# Altium footprint library ECEN_1400.PcbLib: 52 footprints (part 2 of 4)
Each footprint in its own frame and in the unit in brackets; x right, y up, seen from the top. Pads: shape width x height; smd on the part's side, far side on the other; paste and mask are expansions set on the pad; w line width, h text height; cw(c..) or ccw(c..) is an arc to the next point about the centre after c.
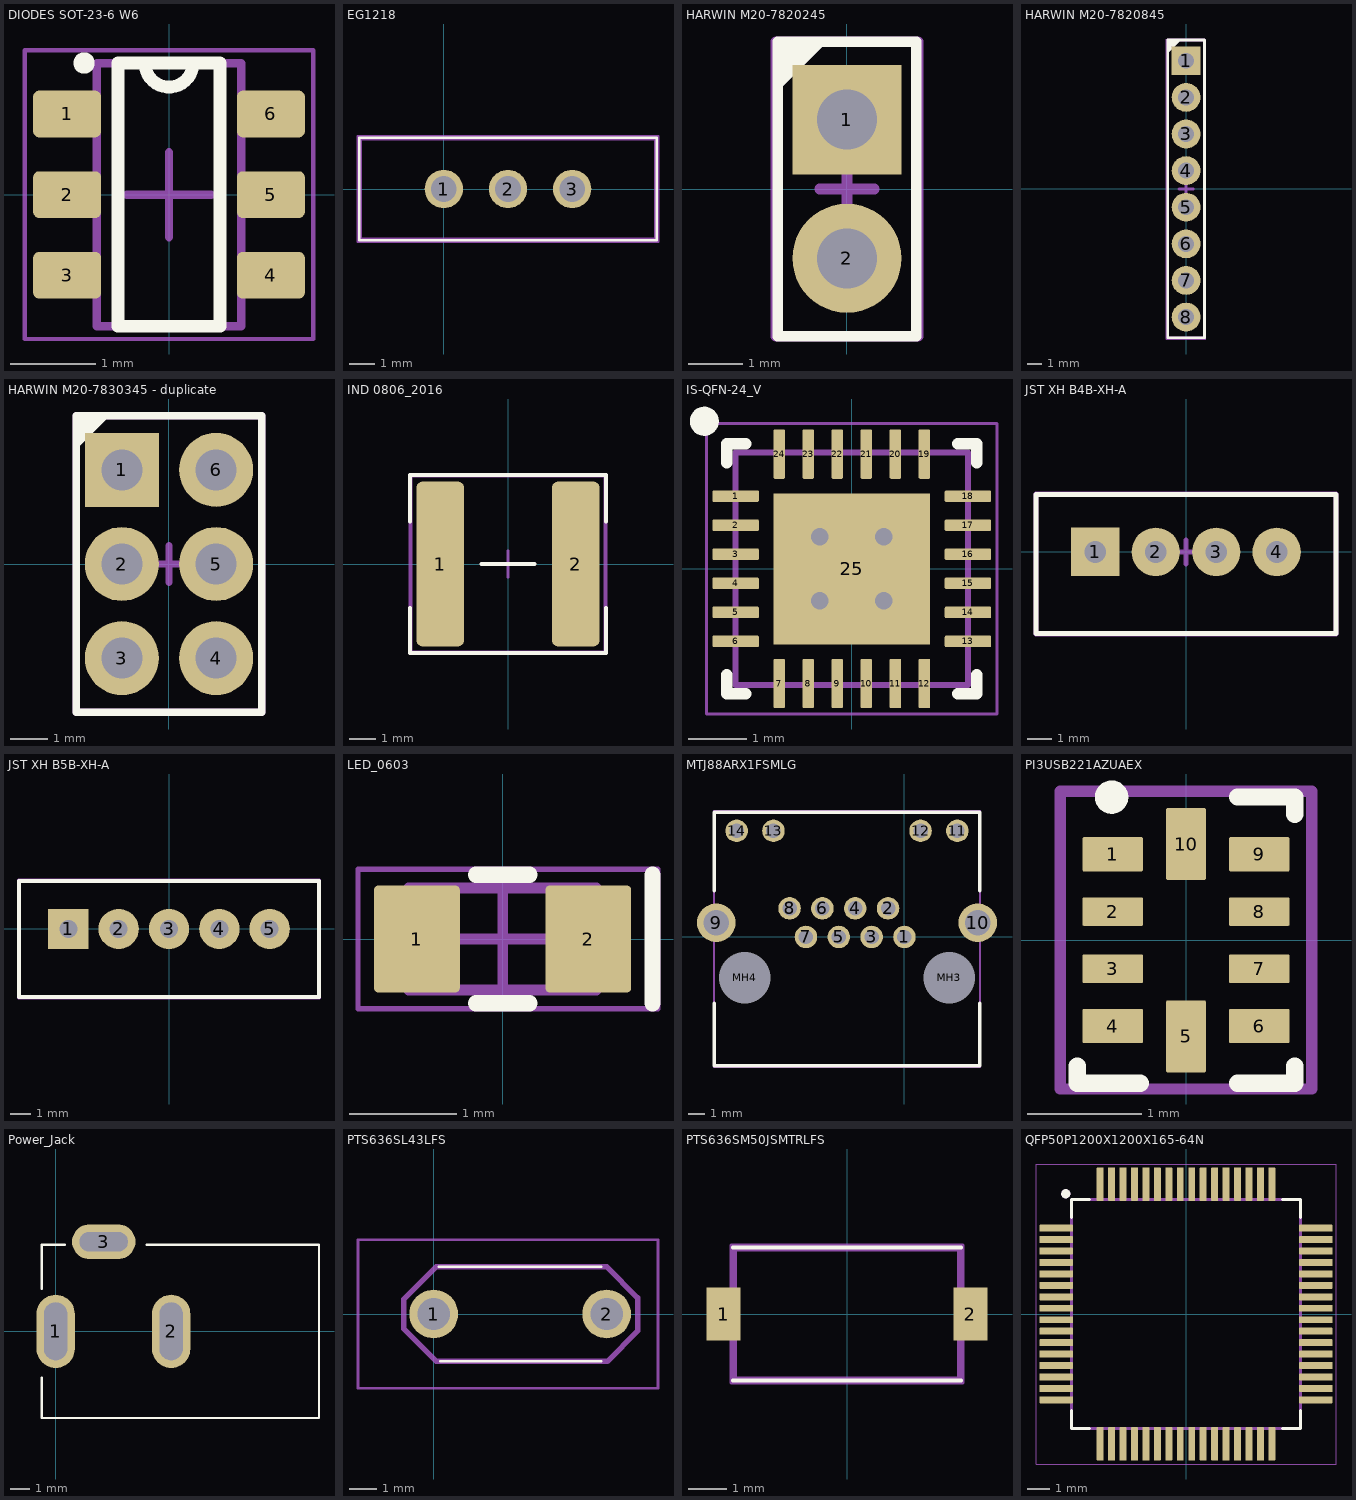
[diagram p1: the footprints below, top view; thin cyan lines are the x and y axes]

## DIODES SOT-23-6 W6 [mm] "SOT23, 6-Leads, Body 3.00x2.85mm, Pitch 0.95mm, IPC Medium Density"
height 1.3
pads (6):
  rrect25% 0.8x0.55 smd: 1(-1.2,0.95) 2(-1.2,0) 3(-1.2,-0.95) 4(1.2,-0.95) 5(1.2,0) 6(1.2,0.95)
Top Overlay:
  circle w0.15: c-1,1.55 r0.05
  lines w0.15: -0.283,1.55 ccw(c0,1.55) 0.283,1.55 ; -0.6,-1.55 0.6,-1.55 0.6,1.55 -0.6,1.55 -0.6,-1.55
Mechanical 13:
  lines w0.1: -0.85,-1.55 -0.85,1.55 0.85,1.55 0.85,-1.55 -0.85,-1.55
Mechanical 15:
  lines w0.05: -1.7,-1.7 -1.7,-0.606 -1.7,0.5 -1.7,1.7 1.7,1.7 1.7,-1.7 -1.7,-1.7
  lines w0.1: -0.5,0 0.5,0 ; 0,-0.5 0,0.5
3D body "SOT-23-6.STEP": height 1, standoff 0, extent -1.187,-1.45 1.2,1.45

## EG1218 [mm]
pads (3):
  round 1.5 hole 1: 1(0,0) 2(2.5,0) 3(5,0)
Top Overlay:
  lines w0.1: -3.3,-2 -3.3,2 8.3,2 8.3,-2 -3.3,-2
Mechanical 15:
  lines w0.2: -3.3,-2 -3.3,2 8.3,2 8.3,-2 -3.3,-2
Mechanical 20:
  lines w0.1: -3.35,-2.05 -3.35,2.05 8.35,2.05 8.35,-2.05 -3.35,-2.05

## HARWIN M20-7820245 [mm] "2.54mm DIL PC TAIL PIN HEADER ASSEMBLY"
height 5
pads (2):
  rect 2x2 hole 1.1: 1(0,1.27)
  round 2 hole 1.1: 2(0,-1.27)
Top Overlay:
  region: -1.23,2.73 -1.23,1.83 -0.33,2.73
  lines w0.2: -1.27,-2.7 1.27,-2.7 1.27,2.7 -1.27,2.7 -1.27,-2.7
Top Assembly:
  lines w0.2: -0.5,0 0.5,0 ; 0,-0.5 0,0.5 ; -1.27,-2.7 1.27,-2.7 1.27,2.7 -1.27,2.7 -1.27,-2.7
Top Courtyard:
  lines w0.2: -1.3,-2.7 1.3,-2.7 1.3,2.7 -1.3,2.7 -1.3,-2.7
Mechanical 20:
  lines w0.05: -1.35,-2.75 1.35,-2.75 1.35,2.75 -1.35,2.75 -1.35,-2.75
3D body "M20-7820242.step": height 8.5, standoff -3, extent -1.25,-2.74 1.25,2.74

## HARWIN M20-7820845 [mm] "2.54mm DIL PC TAIL PIN HEADER ASSEMBLY"
height 5
pads (8):
  rect 2x2 hole 1.1: 1(0,8.89)
  round 2 hole 1.1: 2(0,6.35) 3(0,3.81) 4(0,1.27) 5(0,-1.27) 6(0,-3.81) 7(0,-6.35) 8(0,-8.89)
Top Overlay:
  region: -1.23,10.35 -1.23,9.45 -0.33,10.35
  lines w0.2: -1.27,-10.33 1.27,-10.33 1.27,10.32 -1.27,10.32 -1.27,-10.33
Top Assembly:
  lines w0.2: -0.5,0 0.5,0 ; 0,-0.5 0,0.5 ; -1.27,-10.33 1.27,-10.33 1.27,10.32 -1.27,10.32 -1.27,-10.33
Top Courtyard:
  lines w0.1: -1.3,-10.4 1.3,-10.4 1.3,10.4 -1.3,10.4 -1.3,-10.4
Mechanical 20:
  lines w0.05: -1.363,-10.413 1.35,-10.413 1.35,10.4 -1.363,10.4 -1.363,-10.413
3D body "M20-7820842.step": height 8.5, standoff -3, extent -1.25,-10.36 1.25,10.36

## HARWIN M20-7830345 - duplicate [mm] "2.54mm DIL PC TAIL PIN HEADER ASSEMBLY"
height 5
pads (6):
  rect 2x2 hole 1.1: 1(-1.27,2.54)
  round 2 hole 1.1: 2(-1.27,0) 3(-1.27,-2.54) 4(1.27,-2.54) 5(1.27,0) 6(1.27,2.54)
Top Overlay:
  region: -2.5,4 -2.5,3.1 -1.6,4
  lines w0.2: -2.5,-4 2.5,-4 2.5,4 -2.5,4 -2.5,-4
Top Assembly:
  lines w0.2: -0.5,0 0.5,0 ; 0,-0.5 0,0.5 ; -2.5,-4 2.5,-4 2.5,4 -2.5,4 -2.5,-4
Top Courtyard:
  lines w0.05: -2.55,-4.05 2.55,-4.05 2.55,4.05 -2.55,4.05 -2.55,-4.05
Mechanical 20:
  lines w0.05: -2.55,-4.05 2.55,-4.05 2.55,4.05 -2.55,4.05 -2.55,-4.05
3D body "M20-7830342.step": height 8.5, standoff -3, extent -2.52,-4.01 2.52,4.01

## IND 0806_2016 [mm] "Chip Capacitor, 2-Leads, Body 2.00x1.20mm, IPC Medium Density"
height 1.8
pads (2):
  rrect25% 1.8x6.2 smd: 1(-2.55,0) 2(2.55,0)
Top Overlay:
  lines w0.15: -3.7,-1.65 -3.7,-3.35 3.7,-3.35 3.7,-1.65 ; -3.7,1.6 -3.7,3.35 3.7,3.35 ; -1,0 1,0 ; 3.7,1.6 3.7,3.3
Mechanical 13:
  lines w0.1: -3.7,-3.35 3.7,-3.35 3.7,3.35 -3.7,3.35 -3.7,-3.35
Mechanical 15:
  lines w0.1: -0.5,0 0.5,0 ; 0,-0.5 0,0.5 ; -3.65,-3.3 3.65,-3.3 3.65,3.3 -3.65,3.3 -3.65,-3.3

## IS-QFN-24_V [mm] "QFN, 24-Leads, Body 4x4mm, Pitch 0.5mm, Thermal Pad 2.7x2.6mm"
height 0.95
pads (25):
  rrect25% 0.8x0.2 smd: 1(-2,1.25) 2(-2,0.75) 3(-2,0.25) 4(-2,-0.25) 5(-2,-0.75) 6(-2,-1.25) 13(2,-1.25) 14(2,-0.75) 15(2,-0.25) 16(2,0.25) 17(2,0.75) 18(2,1.25)
  rrect25% 0.2x0.85 smd: 7(-1.25,-1.975) 8(-0.75,-1.975) 9(-0.25,-1.975) 10(0.25,-1.975) 11(0.75,-1.975) 12(1.25,-1.975) 19(1.25,1.975) 20(0.75,1.975) 21(0.25,1.975) 22(-0.25,1.975) 23(-0.75,1.975) 24(-1.25,1.975)
  rect 2.7x2.6 smd: 25(0,0)
via -0.55,0.55 diameter 0.5 hole 0.3
via 0.55,0.55 diameter 0.5 hole 0.3
via 0.55,-0.55 diameter 0.5 hole 0.3
via -0.55,-0.55 diameter 0.5 hole 0.3
Top Overlay:
  circle w0.25: c-2.54,2.54 r0.125
  lines w0.2: -2.15,-1.825 -2.15,-2.15 -1.825,-2.15 ; -2.15,1.825 -2.15,2.15 -1.825,2.15 ; 1.825,-2.15 2.15,-2.15 2.15,-1.825 ; 1.825,2.15 2.15,2.15 2.15,1.825
Mechanical 13:
  lines w0.1: -2,-2 2,-2 2,2 -2,2 -2,-2
Mechanical 15:
  lines w0.05: -2.5,-2.5 -2.5,2.5 2.5,2.5 2.5,-2.5 -2.5,-2.5
  lines w0.1: -0.5,0 0.5,0 ; 0,-0.5 0,0.5
3D body: height 0.95, standoff 0, extent -1.999,-1.999 1.999,1.999

## JST XH B4B-XH-A [mm]
height 7
pads (4):
  rect 2x2 hole 0.9: 1(-3.75,0)
  round 2 hole 0.9: 2(-1.25,0) 3(1.25,0) 4(3.75,0)
Top Overlay:
  lines w0.2: -6.2,-3.375 6.2,-3.375 6.2,2.375 -6.2,2.375 -6.2,-3.375
Mechanical 1:
  lines w0.2: -6.2,-3.375 -6.2,2.375 6.2,2.375 6.2,-3.375 -6.2,-3.375
Mechanical 15:
  lines w0.2: -0.5,0 0.5,0 ; 0,-0.5 0,0.5 ; -6.2,-3.4 6.2,-3.4 6.2,2.4 -6.2,2.4 -6.2,-3.4
3D body "JST B4B-XH-A.STEP": height 7, standoff -3.4, extent -6.2,-3.375 6.2,2.375

## JST XH B5B-XH-A [mm]
height 7
pads (5):
  rect 2x2 hole 0.9: 1(-5,0)
  round 2 hole 0.9: 2(-2.5,0) 3(0,0) 4(2.5,0) 5(5,0)
Top Overlay:
  lines w0.2: -7.45,-3.375 -7.45,2.375 7.45,2.375 7.45,-3.375 -7.45,-3.375
Mechanical 1:
  lines w0.2: -7.45,-3.375 7.45,-3.375 7.45,2.375 -7.45,2.375 -7.45,-3.375
Mechanical 15:
  lines w0.2: -0.5,0 0.5,0 ; 0,-0.5 0,0.5 ; -7.45,-3.4 -7.45,2.4 7.45,2.4 7.45,-3.4 -7.45,-3.4
3D body "JST B5B-XH-A.STEP": height 7, standoff -3.4, extent -7.45,-3.375 7.45,2.375

## LED_0603 [mm] "Chip Resistor, 2-Leads, Body 1.60x0.80mm"
height 0.45
pads (2):
  rrect10% 0.8x1 smd: 1(-0.8,0) 2(0.8,0)
Top Overlay:
  lines w0.15: -0.25,-0.6 0.25,-0.6 ; -0.25,0.6 0.25,0.6 ; 1.4,-0.6 1.4,0.6
Mechanical 13:
  lines w0.1: -0.875,-0.475 -0.875,0.475 0.875,0.475 0.875,-0.475 -0.875,-0.475
Mechanical 15:
  lines w0.05: -1.35,-0.65 -1.35,0.65 1.45,0.65 1.45,-0.65 -1.35,-0.65
  lines w0.1: -0.475,0 0.475,0 ; 0,-0.475 0,0.475
3D body "0603 resistor.STEP": height 0.45, standoff 0, extent -0.8,-0.4 0.8,0.4

## MTJ88ARX1FSMLG [mm]
pads (16):
  round 1.4 hole 0.9: 1(0,0) 2(-1.02,1.78) 3(-2.04,0) 4(-3.06,1.78) 5(-4.08,0) 6(-5.1,1.78) 7(-6.12,0) 8(-7.14,1.78) 11(3.29,6.6) 12(1,6.6) 13(-8.14,6.6) 14(-10.43,6.6)
  round 2.4 hole 1.6: 9(-11.695,0.89) 10(4.555,0.89)
  round 1.6 hole 3.2 unplated: MH3(2.78,-2.54) MH4(-9.92,-2.54)
Top Overlay:
  lines w0.2: -11.82,-4.125 -11.82,-8 4.68,-8 4.68,-4.125 ; -11.82,2.875 -11.82,7.75 4.68,7.75 4.68,2.875
Top Courtyard:
  lines w0.1: -11.85,-8.1 4.7,-8.1 4.7,7.85 -11.85,7.85 -11.85,-8.1
Mechanical 15:
  lines w0.1: -11.82,-8 -11.82,7.75 4.68,7.75 4.68,-8 -11.82,-8
Mechanical 20:
  lines w0.1: -11.85,-8.05 -11.85,7.85 4.7,7.85 4.7,-8.05 -11.85,-8.05

## PI3USB221AZUAEX [mm]
pads (10):
  rrect10% 0.53x0.3 smd: 1(-0.64,0.75) 4(-0.64,-0.75) 6(0.64,-0.75) 9(0.64,0.75)
  rrect10% 0.53x0.25 smd: 2(-0.64,0.25) 3(-0.64,-0.25) 7(0.64,-0.25) 8(0.64,0.25)
  rrect10% 0.35x0.63 smd: 5(0,-0.84) 10(0,0.84)
Top Overlay:
  circle w0.15: c-0.65,1.25 r0.071
  lines w0.15: -0.95,-1.1 -0.95,-1.25 -0.4,-1.25 ; 0.45,-1.25 0.95,-1.25 0.95,-1.1 ; 0.45,1.25 0.95,1.25 0.95,1.1
Mechanical 15:
  lines w0.1: -1.1,-1.3 1.1,-1.3 1.1,1.3 -1.1,1.3 -1.1,-1.3
Mechanical 20:
  lines w0.1: -1.1,-1.3 1.1,-1.3 1.1,1.3 -1.1,1.3 -1.1,-1.3

## Power_Jack [mm]
pads (3):
  oval 2x3.8 hole 1.2 slot 3 at 90 deg: 1(0,0) 2(6,0)
  oval 3.3x1.8 hole 1 slot 2.5 at 0 deg: 3(2.5,4.65)
Top Overlay:
  lines w0.127: -0.723,-2.413 -0.723,-4.5 13.677,-4.5 13.677,4.5 4.727,4.5 ; -0.723,2.21 -0.723,4.5 0.483,4.5
  lines w0.254: 5.969,0 5.977,0
3D body "Power_JackPJ-102A.step": height 11.49, standoff -3.02, extent -0.762,-4.446 13.638,4.954

## PTS636SL43LFS [mm]
pads (2):
  round 1.8 hole 1.2: 1(0,0) 2(6.4,0)
Top Overlay:
  lines w0.1: 0.2,1.75 6.2,1.75 0.2,1.75 ; 0.25,-1.75 6.2,-1.75 0.25,-1.75
Mechanical 15:
  lines w0.2: -1.1,-0.55 0.1,-1.75 6.426,-1.75 7.55,-0.626 7.55,0.6 6.4,1.75 0.1,1.75 -1.1,0.55 -1.1,-0.55
Mechanical 20:
  lines w0.1: -2.8,-2.75 -2.8,2.75 8.3,2.75 8.3,-2.75 -2.8,-2.75

## PTS636SM50JSMTRLFS [mm]
pads (2):
  rect 0.9x1.4 smd: 1(-3.25,0) 2(3.25,0)
Top Overlay:
  lines w0.1: -3,-1.75 3,-1.75 ; -3,1.75 3,1.75
Mechanical 15:
  lines w0.2: -3,-1.75 -3,1.75 3,1.75 3,-1.75 -3,-1.75
Mechanical 20:
  lines w0.1: -3.05,-1.8 -3.05,1.8 3.05,1.8 3.05,-1.8 -3.05,-1.8

## QFP50P1200X1200X165-64N [mm]
height 1.6
pads (64):
  rrect25% 1.47x0.3 smd: 1(-5.67,3.75) 2(-5.67,3.25) 3(-5.67,2.75) 4(-5.67,2.25) 5(-5.67,1.75) 6(-5.67,1.25) 7(-5.67,0.75) 8(-5.67,0.25) 9(-5.67,-0.25) 10(-5.67,-0.75) 11(-5.67,-1.25) 12(-5.67,-1.75) 13(-5.67,-2.25) 14(-5.67,-2.75) 15(-5.67,-3.25) 16(-5.67,-3.75) 33(5.67,-3.75) 34(5.67,-3.25) 35(5.67,-2.75) 36(5.67,-2.25) 37(5.67,-1.75) 38(5.67,-1.25) 39(5.67,-0.75) 40(5.67,-0.25) 41(5.67,0.25) 42(5.67,0.75) 43(5.67,1.25) 44(5.67,1.75) 45(5.67,2.25) 46(5.67,2.75) 47(5.67,3.25) 48(5.67,3.75)
  rrect25% 0.3x1.47 smd: 17(-3.75,-5.67) 18(-3.25,-5.67) 19(-2.75,-5.67) 20(-2.25,-5.67) 21(-1.75,-5.67) 22(-1.25,-5.67) 23(-0.75,-5.67) 24(-0.25,-5.67) 25(0.25,-5.67) 26(0.75,-5.67) 27(1.25,-5.67) 28(1.75,-5.67) 29(2.25,-5.67) 30(2.75,-5.67) 31(3.25,-5.67) 32(3.75,-5.67) 49(3.75,5.67) 50(3.25,5.67) 51(2.75,5.67) 52(2.25,5.67) 53(1.75,5.67) 54(1.25,5.67) 55(0.75,5.67) 56(0.25,5.67) 57(-0.25,5.67) 58(-0.75,5.67) 59(-1.25,5.67) 60(-1.75,5.67) 61(-2.25,5.67) 62(-2.75,5.67) 63(-3.25,5.67) 64(-3.75,5.67)
Top Overlay:
  circle w0.2: c-5.25,5.25 r0.1
  lines w0.127: -5,-4.205 -5,-5 -4.205,-5 ; -5,4.205 -5,5 -4.205,5 ; 4.205,-5 5,-5 5,-4.205 ; 4.205,5 5,5 5,4.205
Mechanical 13:
  circle w0.2: c-5.25,5.25 r0.1
  lines w0.127: -5,-5 -5,5 5,5 5,-5 -5,-5
Mechanical 15:
  lines w0.05: -6.55,-6.55 6.55,-6.55 6.55,6.55 -6.55,6.55 -6.55,-6.55
3D body "step_temp.STEP": height 1.6, standoff 0, extent -6,-6 6,6